# Altium schematic symbol library VOLT_REG_SCH_LIB.SchLib: 12 symbols
Pins are listed as number, name and electrical type; pins without a type are passive.

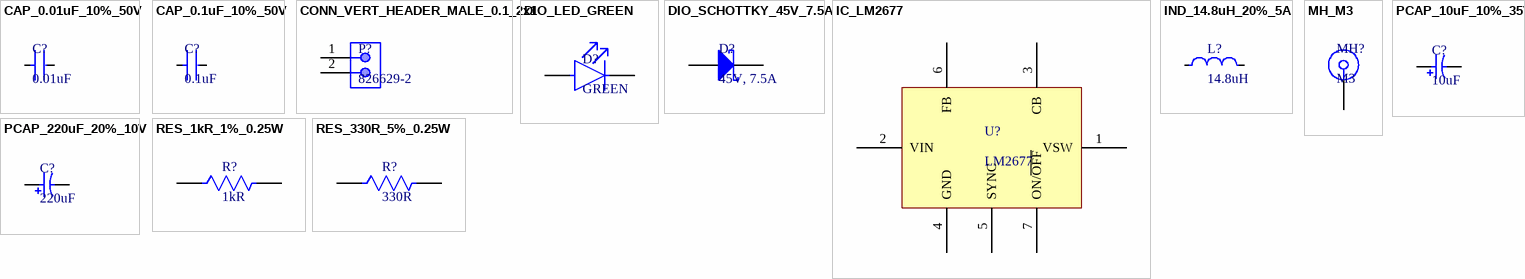
[diagram p0: symbols CAP_0.01uF_10%_50V to RES_330R_5%_0.25W]

## CAP_0.01uF_10%_50V
designator C?, comment 0.01uF
±10% 50V Ceramic Capacitor X7R 1206 (3216 Metric); Manufacturer: AVX Corporation; Manufacturer Part Number: 12065C103KAT2A; Supplier 1: Digi-Key; Supplier Part Number 1: 478-1542-1-ND; Case/Package: 1206 (3216 Metric)
footprint CAP_1206_AVX_1206 (SMD, 2-Leads, Body 3.4x1.8mm, IPC Low Density)
pins: 1, 2

## CAP_0.1uF_10%_50V
designator C?, comment 0.1uF
±10% 50V Ceramic Capacitor X8R 1206 (3216 Metric); Manufacturer: AVX Corporation; Manufacturer Part Number: 12065F104K4T2A; Supplier 1: Digi-Key; Supplier Part Number 1: 478-3618-1-ND; Case/Package: 1206 (3216 Metric)
footprint CAP_1206_AVX_1206 (SMD, 2-Leads, Body 3.4x1.8mm, IPC Low Density)
pins: 1, 2

## CONN_VERT_HEADER_MALE_0.1_2x1
designator P?, comment 826629-2
CONN HEADER VERT 2POS 2.54MM; Manufacturer: TE Connectivity AMP Connectors; Manufacturer Part Number: 826629-2; Supplier 1: Digi-Key; Supplier Part Number 1: A105107-ND; Case/Package: Header, Breakaway
footprint CONN_HEADER_MALE_0.1_2x1 (Connector)
pins: 1, 2

## DIO_LED_GREEN
designator D?, comment GREEN
LED GREEN CLEAR CHIP SMD; Manufacturer: Lite-On Inc.; Manufacturer Part Number: LTST-C150GKT; Supplier 1: Digi-Key; Supplier Part Number 1: 160-1169-1-ND; Case/Package: 1206 (3216 Metric)
footprint DIO_1206_ LTST_C150 (Diode)
pins: 1, 2

## DIO_SCHOTTKY_45V_7.5A
designator D?, comment 45V, 7.5A
Diode Schottky 7.5A Surface Mount D²PAK; Manufacturer: STMicroelectronics; Manufacturer Part Number: STPS745G-TR; Supplier 1: Digi-Key; Supplier Part Number 1: 497-12675-1-ND; Case/Package: TO-263-3, D²Pak (2 Leads + Tab), TO-263AB
footprint DIO_SCHOTTKY_TO_263_3_ST_D2PAK (Diode Schottky)
pins: A, K

## IC_LM2677
designator U?, comment LM2677
Buck Switching Regulator IC Positive Fixed 5V 1 Output 5A TO-220-7 (Formed Leads); Manufacturer: Texas Instruments; Manufacturer Part Number: LM2677S-5.0/NOPB; Supplier 1: Digi-Key; Supplier Part Number 1: LM2677S-5.0/NOPB-ND; Case/Package: TO-263-8, D²Pak (7 Leads + Tab), TO-263CA
footprint IC_TO_263_7_KTW0007B (DPAK, 7-Leads, Body 9.4x10.4mm, Pitch 1.27mm, IPC Low Density)
pins: 1 VSW, 2 VIN, 3 CB, 4 GND, 5 SYNC, 6 FB, 7 ON/~{OFF}

## IND_14.8uH_20%_5A
designator L?, comment 14.8uH
Shielded Toroidal Inductor 27mOhm Nonstandard; Manufacturer: Pulse Electronics Power; Manufacturer Part Number: P0846SNL; Supplier 1: Digi-Key; Supplier Part Number 1: 553-1126-5-ND; Case/Package: Nonstandard
footprint IND_NON_STD_LCI50 (Inductor)
pins: 1, 2

## MH_M3
designator MH?, comment M3
M3 Mounting Hole
footprint MH_M3 (Mounting Holes, M3)
pins: 1

## PCAP_10uF_10%_35V
designator C?, comment 10uF
Molded Tantalum Capacitors 2917 (7343 Metric) 260mOhm; Manufacturer: KEMET; Manufacturer Part Number: T495D106K035ATE260; Supplier 1: Digi-Key; Supplier Part Number 1: 399-11082-1-ND; Case/Package: 2917 (7343 Metric)
footprint CAP_2917_KEMT_T495_D (Molded Capacitor, 2-Leads, Body 7.6x4.6mm, IPC Low Density)
pins: 1, 2

## PCAP_220uF_20%_10V
designator C?, comment 220uF
Molded Tantalum Capacitors 2917 (7343 Metric) 100mOhm; Manufacturer: AVX Corporation; Manufacturer Part Number: TPSD227M010R0100; Supplier 1: Digi-Key; Supplier Part Number 1: 478-4110-1-ND; Case/Package: 2917 (7343 Metric)
footprint CAP_2917_AVX_7343_31 (Molded Capacitor, 2-Leads, Body 7.5x4.5mm, IPC Low Density)
pins: 1, 2

## RES_1kR_1%_0.25W
designator R?, comment 1kR
±1% 0.25W, 1/4W Chip Resistor 1206 (3216 Metric) Moisture Resistant Thick Film; Manufacturer: Yageo; Manufacturer Part Number: RC1206FR-071KL; Supplier 1: Digi-Key; Supplier Part Number 1: 311-1.00KFRCT-ND; Case/Package: 1206 (3216 Metric)
footprint RES_1206_YAGEO_RC_1206 (Chip Resistor, 2-Leads, Body 3.10x1.60mm, IPC High Density)
pins: 1, 2

## RES_330R_5%_0.25W
designator R?, comment 330R
±5% 0.25W, 1/4W Chip Resistor 1206 (3216 Metric) Automotive AEC-Q200 Thick Film; Manufacturer: Stackpole Electronics Inc; Manufacturer Part Number: RMCF1206JT330R; Supplier 1: Digi-Key; Supplier Part Number 1: RMCF1206JT330RCT-ND; Case/Package: 1206 (3216 Metric)
footprint RES_1206_SE_RMCF1206 (Resistor)
pins: 1, 2